# EAGLE library part CONNECTOR-FTDI-SERIAL (library SPCoast)
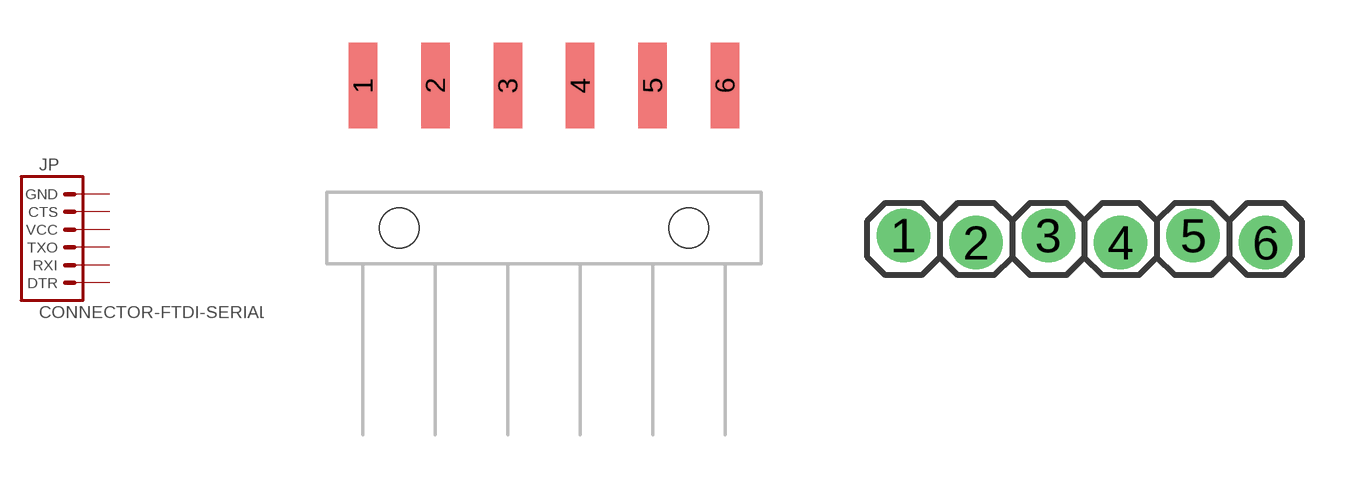
[diagram p1: symbol with the pads of 1X06-SMD; footprints 1X06-SMD, 1X06-PTH]

Designator prefix JP

## CONNECTOR-FTDI-SERIALSMD  [1X06-SMD]
1  DTR  pas
2  RXI  pas
3  TXO  pas
4  VCC  pas
5  CTS  pas
6  GND  pas

## CONNECTOR-FTDI-SERIALPTH-LOCK (OPL: 3460650P1)  [1X06-PTH]
Pads as for 1X06-SMD

## CONNECTOR-FTDI-SERIALSPARKFUN-1  [FTDI_BASIC]
CTS  CTS  pas
DTR  DTR  pas
GND  GND  pas
RXI  RXI  pas
TXO  TXO  pas
VCC  VCC  pas

## CONNECTOR-FTDI-SERIALSPARKFUN-2  [FTDI_DEVICE_SIDE]
Pads as for FTDI_BASIC

## Footprint 1X06-SMD (pad centres in mm)
smd 1 x 3: 1 -6.35,5; 2 -3.81,5; 3 -1.27,5; 4 1.27,5; 5 3.81,5; 6 6.35,5
hole 1.4 at -5.08,0
hole 1.4 at 5.08,0

## Footprint 1X06-PTH (pad centres in mm)
This footprint was designed to help hold the alignment of a through-hole component (i.e. 6-pin header) while soldering it into place. You may notice that each hole has been shifted either up or down by 0.005 of an inch from it's more standard position (which is a perfectly straight line). This slight alteration caused the pins (the squares in the middle) to touch the edges of the holes. Because they are alternating, it causes a "brace" to hold the component in place. 0.005 has proven to be the perfect amount of "off-center" position when using our standard breakaway headers. Although looks a little odd when you look at the bare footprint, once you have a header in there, the alteration is very hard to notice. Also, if you push a header all the way into place, it is covered up entirely on the bottom side. This idea of altering the position of holes to aid alignment will be further integrated into the Sparkfun Library for other footprints. It can help hold any component with 3 or more connection pins.
drill 1.016 pad 1.88: 1 0,0; 2 2.54,-0.254; 3 5.08,0; 4 7.62,-0.254; 5 10.16,0; 6 12.7,-0.254

## Footprint FTDI_BASIC (pad centres in mm)
drill 1.016 pad 1.88: CTS 10.16,-0.127; DTR 0,-0.127; GND 12.7,0.127; RXI 2.54,0.127; TXO 5.08,-0.127; VCC 7.62,0.127

## Footprint FTDI_DEVICE_SIDE (pad centres in mm)
Package for devices meant to mate to an FTDI connector.
drill 1.016 pad 1.778: CTS 3.81,-0.127; GND 6.35,0.127; RXI -1.27,-0.127; TXO -3.81,0.127; VCC 1.27,0.127
drill 1 square: DTR -6.35,-0.127